# Altium footprint library VQFN-20_5x5x065P.PcbLib: 1 footprints
Each footprint in its own frame and in the unit in brackets; x right, y up, seen from the top. Pads: shape width x height; smd on the part's side, far side on the other; paste and mask are expansions set on the pad; w line width, h text height; cw(c..) or ccw(c..) is an arc to the next point about the centre after c.
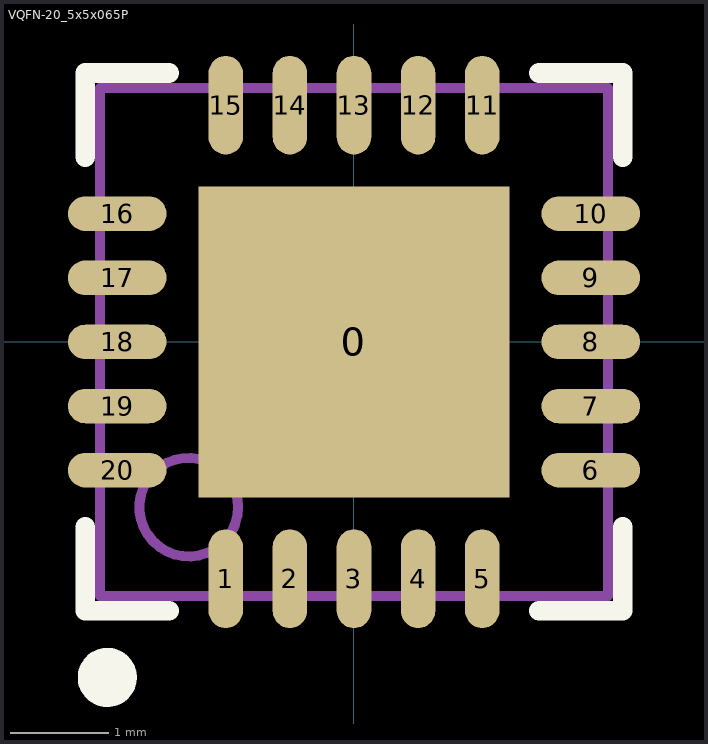
[diagram p0: the footprint, top view; thin cyan lines are the x and y axes]

## VQFN-20_5x5x065P [mm]
pads (21):
  rect 3.15x3.15 smd paste-1.575 mask+0.07: 0(0,0)
  oval 0.35x1 smd paste-0.025 mask+0.07: 1(-1.3,-2.4) 2(-0.65,-2.4) 3(0,-2.4) 4(0.65,-2.4) 5(1.3,-2.4) 11(1.3,2.4) 12(0.65,2.4) 13(0,2.4) 14(-0.65,2.4) 15(-1.3,2.4)
  oval 1x0.35 smd paste-0.025 mask+0.07: 6(2.4,-1.3) 7(2.4,-0.65) 8(2.4,0) 9(2.4,0.65) 10(2.4,1.3) 16(-2.4,1.3) 17(-2.4,0.65) 18(-2.4,0) 19(-2.4,-0.65) 20(-2.4,-1.3)
Top Overlay:
  circle w0.3: c-2.5,-3.4 r0.15
  lines w0.2: -2.725,-1.875 -2.725,-2.725 -1.875,-2.725 ; -2.725,1.875 -2.725,2.725 -1.875,2.725 ; 1.875,-2.725 2.725,-2.725 2.725,-1.875 ; 1.875,2.725 2.725,2.725 2.725,1.875
Top Paste:
  region: -0.15,-0.15 -1.45,-0.15 -1.45,-1.45 -0.15,-1.45
  rectangle: 0.15,-1.45 1.45,-0.15
  rectangle: 0.15,0.15 1.45,1.45
  region: -0.15,1.45 -1.45,1.45 -1.45,0.15 -0.15,0.15
Mechanical 13:
  circle w0.1: c-1.675,-1.675 r0.5
  lines w0.1: -2.575,-2.575 -2.575,2.575 2.575,2.575 2.575,-2.575 -2.575,-2.575